# EAGLE library part AT45DB641E (library miller)
64-megabit 2.3-3.6V DataFlash Source: http://www.adestotech.com/wp-content/uploads/DS-45DB641E-027.pdf
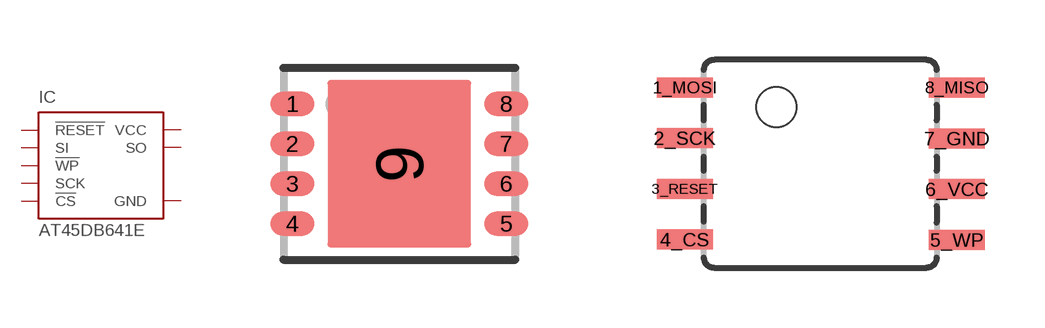
[diagram p9: symbol with the pads of VDFN-8; footprints VDFN-8, ADESTO_DATAFLASH_SOIC8]

Designator prefix IC

## AT45DB641E-MU (MF: ATMEL; MPN: AT45DB161D-SU; OC_FARNELL: 1455040)  [VDFN-8]
1  SI  in
2  SCK  in
3  !RESET  in
4  !CS  in
5  !WP  in
6  VCC  pwr
7  GND  pwr
8  SO

## AT45DB641ESOIC8  [ADESTO_DATAFLASH_SOIC8]
1_MOSI  SI  in
2_SCK  SCK  in
3_RESET  !RESET  in
4_CS  !CS  in
5_WP  !WP  in
6_VCC  VCC  pwr
7_GND  GND  pwr
8_MISO  SO

## Footprint VDFN-8 (pad centres in mm)
8M1-A-MLF (VDFN) 6 x 5 mm Source: http://www.atmel.com/dyn/resources/prod_documents/doc3500.pdf
smd 1.1 x 0.6: 1 -2.675,1.5; 2 -2.675,0.5; 3 -2.675,-0.5; 4 -2.675,-1.5; 5 2.675,-1.5; 6 2.675,-0.5; 7 2.675,0.5; 8 2.675,1.5
smd 3.6 x 4.2: 9 0,0

## Footprint ADESTO_DATAFLASH_SOIC8 (pad centres in mm)
Adesto DataFlash SPI memory chip 8-SOIC package, approx 5x6mm
smd 1.4 x 0.5: 1_MOSI -3.404,1.905; 2_SCK -3.404,0.645; 3_RESET -3.404,-0.625; 4_CS -3.404,-1.895; 5_WP 3.404,-1.905; 6_VCC 3.404,-0.635; 7_GND 3.404,0.635; 8_MISO 3.404,1.905